# Altium footprint library Acorn.PcbLib: 7 footprints
Each footprint in its own frame and in the unit in brackets; x right, y up, seen from the top. Pads: shape width x height; smd on the part's side, far side on the other; paste and mask are expansions set on the pad; w line width, h text height; cw(c..) or ccw(c..) is an arc to the next point about the centre after c.
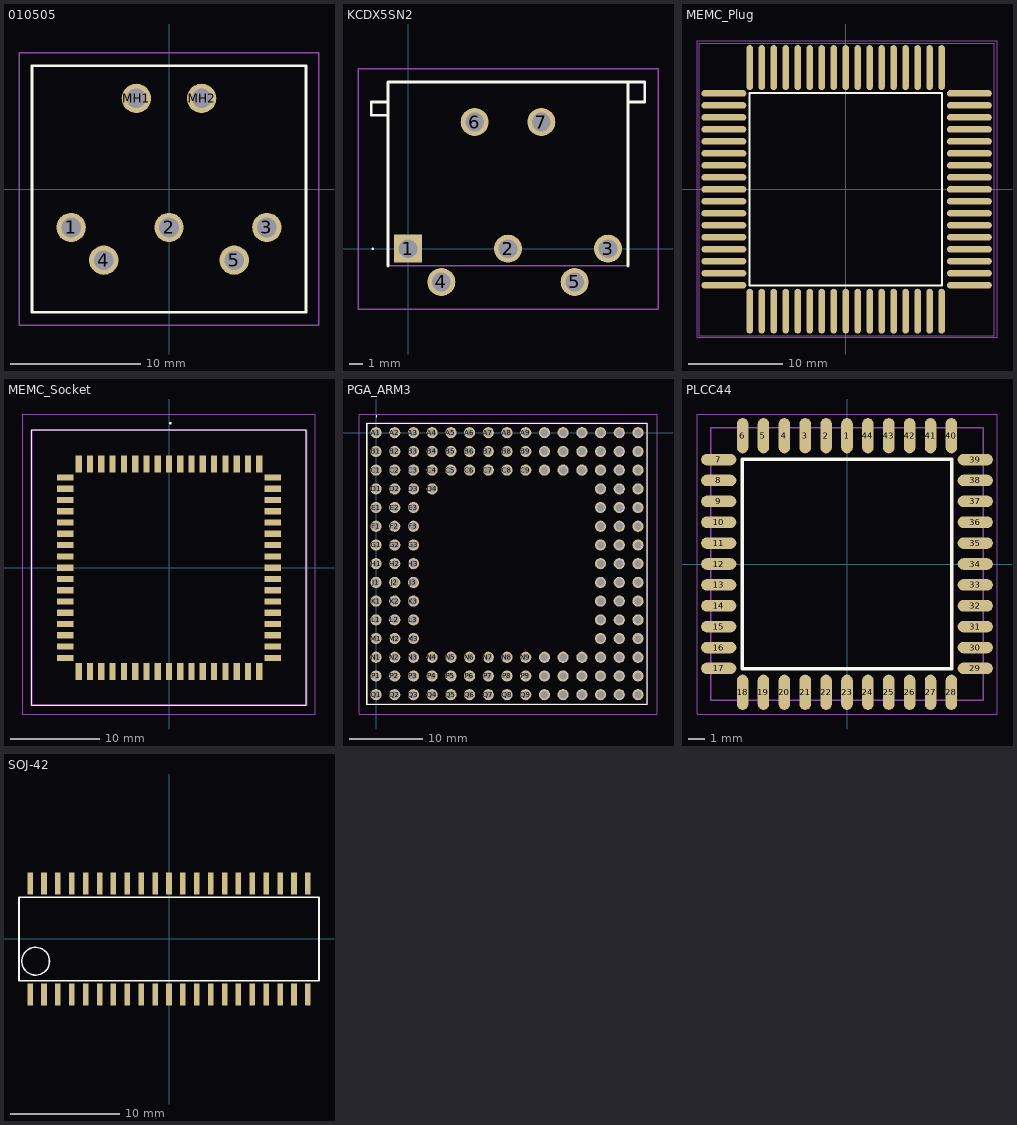
[diagram p0: the footprints below, top view; thin cyan lines are the x and y axes]

## 010505 [mm]
pads (7):
  round 2.25 hole 1.5: 1(-7.5,-2.95) 2(0,-2.95) 3(7.5,-2.95) 4(-5,-5.45) 5(5,-5.45) MH1(-2.5,6.95) MH2(2.5,6.95)
Top Overlay:
  lines w0.2: -10.5,-9.45 -10.5,9.45 10.5,9.45 10.5,-9.45 -10.5,-9.45
Mechanical 13:
  lines w0.1: -10.5,-9.45 -10.5,9.45 10.5,9.45 10.5,-9.45 -10.5,-9.45
Mechanical 15:
  lines w0.1: -11.5,-10.45 -11.5,10.45 11.5,10.45 11.5,-10.45 -11.5,-10.45
3D body "0105+05.stp": height 19.6, standoff -5, extent -10.5,-9.45 10.5,9.45

## KCDX5SN2 [mm]
pads (7):
  rect 2.1x2.1 hole 1.4: 1(0,0)
  round 2.1 hole 1.4: 2(7.5,0) 3(15,0) 4(2.5,-2.5) 5(12.5,-2.5) 6(5,9.5) 7(10,9.5)
Top Overlay:
  lines w0.1: -2.7,0 ccw(c-2.65,0) -2.6,0 ccw(c-2.65,0) -2.7,0
  lines w0.2: -1.5,-1.3 -1.5,12.5 16.5,12.5 ; -1.5,10 -2.75,10 -2.75,11 -1.5,11 ; 16.5,-1.3 16.5,12.5 ; 16.5,11 17.75,11 17.75,12.5 16.5,12.5
Mechanical 13:
  lines w0.1: -1.5,10 -2.75,10 -2.75,11 -1.5,11 ; 16.5,11 17.75,11 17.75,12.5 16.5,12.5 ; 16.5,12.5 16.5,-1.3 -1.5,-1.3 -1.5,12.5 16.5,12.5
Mechanical 15:
  lines w0.1: -3.75,-4.55 18.75,-4.55 18.75,13.5 -3.75,13.5 -3.75,-4.55
3D body "KCDX-5S-N2_rA3.STEP": height 19.5, standoff -4, extent -2.724,-3.064 17.776,12.436

## MEMC_Plug [mm]
height 4.85
pads (68):
  rrect100% 0.7x4.75 smd: 1(0,-12.9) 2(-1.27,-12.9) 3(-2.54,-12.9) 4(-3.81,-12.9) 5(-5.08,-12.9) 6(-6.35,-12.9) 7(-7.62,-12.9) 8(-8.89,-12.9) 9(-10.16,-12.9) 27(-10.16,12.9) 28(-8.89,12.9) 29(-7.62,12.9) 30(-6.35,12.9) 31(-5.08,12.9) 32(-3.81,12.9) 33(-2.54,12.9) 34(-1.27,12.9) 35(0,12.9) 36(1.27,12.9) 37(2.54,12.9) 38(3.81,12.9) 39(5.08,12.9) 40(6.35,12.9) 41(7.62,12.9) 42(8.89,12.9) 43(10.16,12.9) 61(10.16,-12.9) 62(8.89,-12.9) 63(7.62,-12.9) 64(6.35,-12.9) 65(5.08,-12.9) 66(3.81,-12.9) 67(2.54,-12.9) 68(1.27,-12.9)
  rrect100% 4.75x0.7 smd: 10(-12.9,-10.16) 11(-12.9,-8.89) 12(-12.9,-7.62) 13(-12.9,-6.35) 14(-12.9,-5.08) 15(-12.9,-3.81) 16(-12.9,-2.54) 17(-12.9,-1.27) 18(-12.9,0) 19(-12.9,1.27) 20(-12.9,2.54) 21(-12.9,3.81) 22(-12.9,5.08) 23(-12.9,6.35) 24(-12.9,7.62) 25(-12.9,8.89) 26(-12.9,10.16) 44(13.1,10.16) 45(13.1,8.89) 46(13.1,7.62) 47(13.1,6.35) 48(13.1,5.08) 49(13.1,3.81) 50(13.1,2.54) 51(13.1,1.27) 52(13.1,0) 53(13.1,-1.27) 54(13.1,-2.54) 55(13.1,-3.81) 56(13.1,-5.08) 57(13.1,-6.35) 58(13.1,-7.62) 59(13.1,-8.89) 60(13.1,-10.16)
Top Overlay:
  lines w0.2: -10.192,-10.192 -10.192,10.192 10.192,10.192 10.192,-10.192 -10.192,-10.192
Mechanical 14:
  lines w0.1: -15.519,-15.494 -15.519,15.469 15.748,15.469 15.748,-15.494 -15.519,-15.494
Mechanical 16:
  lines w0.05: -15.748,-15.646 -15.748,15.723 16.027,15.723 16.027,-15.646 -15.748,-15.646
3D body "TL16C554FN.stp": height 7.5, standoff 3.16, extent -12.573,-12.573 12.573,12.573

## MEMC_Socket [mm]
height 4.85
pads (68):
  rect 0.7x1.91 smd: 1(0,11.68) 2(-1.27,11.68) 3(-2.54,11.68) 4(-3.81,11.68) 5(-5.08,11.68) 6(-6.35,11.68) 7(-7.62,11.68) 8(-8.89,11.68) 9(-10.16,11.68) 27(-10.16,-11.68) 28(-8.89,-11.68) 29(-7.62,-11.68) 30(-6.35,-11.68) 31(-5.08,-11.68) 32(-3.81,-11.68) 33(-2.54,-11.68) 34(-1.27,-11.68) 35(0,-11.68) 36(1.27,-11.68) 37(2.54,-11.68) 38(3.81,-11.68) 39(5.08,-11.68) 40(6.35,-11.68) 41(7.62,-11.68) 42(8.89,-11.68) 43(10.16,-11.68) 61(10.16,11.68) 62(8.89,11.68) 63(7.62,11.68) 64(6.35,11.68) 65(5.08,11.68) 66(3.81,11.68) 67(2.54,11.68) 68(1.27,11.68)
  rect 1.91x0.7 smd: 10(-11.68,10.16) 11(-11.68,8.89) 12(-11.68,7.62) 13(-11.68,6.35) 14(-11.68,5.08) 15(-11.68,3.81) 16(-11.68,2.54) 17(-11.68,1.27) 18(-11.68,0) 19(-11.68,-1.27) 20(-11.68,-2.54) 21(-11.68,-3.81) 22(-11.68,-5.08) 23(-11.68,-6.35) 24(-11.68,-7.62) 25(-11.68,-8.89) 26(-11.68,-10.16) 44(11.68,-10.16) 45(11.68,-8.89) 46(11.68,-7.62) 47(11.68,-6.35) 48(11.68,-5.08) 49(11.68,-3.81) 50(11.68,-2.54) 51(11.68,-1.27) 52(11.68,0) 53(11.68,1.27) 54(11.68,2.54) 55(11.68,3.81) 56(11.68,5.08) 57(11.68,6.35) 58(11.68,7.62) 59(11.68,8.89) 60(11.68,10.16)
Top Overlay:
  lines w0.1: -15.475,-15.475 15.475,-15.475 15.475,15.5 -15.475,15.5 -15.475,-15.475
  lines w0.2: 0.1,16.25 ccw(c0.15,16.25) 0.2,16.25 ; 0.1,16.25 cw(c0.15,16.25) 0.2,16.25 ; 0.1,16.25 ccw(c0.15,16.25) 0.2,16.25
Mechanical 13:
  lines w0.2: -15.475,-15.475 15.475,-15.475 15.475,15.475 -15.475,15.475 -15.475,-15.475
Mechanical 15:
  lines w0.1: -16.475,-16.475 16.475,-16.475 16.475,17.3 -16.475,17.3 -16.475,-16.475
3D body "plcc68_p1-27_l24-33_w24-33.stp": height 5.08, standoff 0.13, extent -12.57,-12.762 12.7,12.508
3D body "8468-21b1-01.stp": height 4.46, standoff -0.19, extent -15.367,-15.24 15.367,15.47

## PGA_ARM3 [mm]
pads (145):
  round 1.515 hole 1.01: A1(0,0) A2(2.54,0) A3(5.08,0) A4(7.62,0) A5(10.16,0) A6(12.7,0) A7(15.24,0) A8(17.78,0) A9(20.32,0) A10(22.86,0) A11(25.4,0) A12(27.94,0) A13(30.48,0) A14(33.02,0) A15(35.56,0) B1(0,-2.54) B2(2.54,-2.54) B3(5.08,-2.54) B4(7.62,-2.54) B5(10.16,-2.54) B6(12.7,-2.54) B7(15.24,-2.54) B8(17.78,-2.54) B9(20.32,-2.54) B10(22.86,-2.54) B11(25.4,-2.54) B12(27.94,-2.54) B13(30.48,-2.54) B14(33.02,-2.54) B15(35.56,-2.54) C1(0,-5.08) C2(2.54,-5.08) C3(5.08,-5.08) C4(7.62,-5.08) C5(10.16,-5.08) C6(12.7,-5.08) C7(15.24,-5.08) C8(17.78,-5.08) C9(20.32,-5.08) C10(22.86,-5.08) C11(25.4,-5.08) C12(27.94,-5.08) C13(30.48,-5.08) C14(33.02,-5.08) C15(35.56,-5.08) D1(0,-7.62) D2(2.54,-7.62) D3(5.08,-7.62) D4(7.62,-7.62) D13(30.48,-7.62) D14(33.02,-7.62) D15(35.56,-7.62) E1(0,-10.16) E2(2.54,-10.16) E3(5.08,-10.16) E13(30.48,-10.16) E14(33.02,-10.16) E15(35.56,-10.16) F1(0,-12.7) F2(2.54,-12.7) F3(5.08,-12.7) F13(30.48,-12.7) F14(33.02,-12.7) F15(35.56,-12.7) G1(0,-15.24) G2(2.54,-15.24) G3(5.08,-15.24) G13(30.48,-15.24) G14(33.02,-15.24) G15(35.56,-15.24) H1(0,-17.78) H2(2.54,-17.78) H3(5.08,-17.78) H13(30.48,-17.78) H14(33.02,-17.78) H15(35.56,-17.78) J1(0,-20.32) J2(2.54,-20.32) J3(5.08,-20.32) J13(30.48,-20.32) J14(33.02,-20.32) J15(35.56,-20.32) K1(0,-22.86) K2(2.54,-22.86) K3(5.08,-22.86) K13(30.48,-22.86) K14(33.02,-22.86) K15(35.56,-22.86) L1(0,-25.4) L2(2.54,-25.4) L3(5.08,-25.4) L13(30.48,-25.4) L14(33.02,-25.4) L15(35.56,-25.4) M1(0,-27.94) M2(2.54,-27.94) M3(5.08,-27.94) M13(30.48,-27.94) M14(33.02,-27.94) M15(35.56,-27.94) N1(0,-30.48) N2(2.54,-30.48) N3(5.08,-30.48) N4(7.62,-30.48) N5(10.16,-30.48) N6(12.7,-30.48) N7(15.24,-30.48) N8(17.78,-30.48) N9(20.32,-30.48) N10(22.86,-30.48) N11(25.4,-30.48) N12(27.94,-30.48) N13(30.48,-30.48) N14(33.02,-30.48) N15(35.56,-30.48) P1(0,-33.02) P2(2.54,-33.02) P3(5.08,-33.02) P4(7.62,-33.02) P5(10.16,-33.02) P6(12.7,-33.02) P7(15.24,-33.02) P8(17.78,-33.02) P9(20.32,-33.02) P10(22.86,-33.02) P11(25.4,-33.02) P12(27.94,-33.02) P13(30.48,-33.02) P14(33.02,-33.02) P15(35.56,-33.02) Q1(0,-35.56) Q2(2.54,-35.56) Q3(5.08,-35.56) Q4(7.62,-35.56) Q5(10.16,-35.56) Q6(12.7,-35.56) Q7(15.24,-35.56) Q8(17.78,-35.56) Q9(20.32,-35.56) Q10(22.86,-35.56) Q11(25.4,-35.56) Q12(27.94,-35.56) Q13(30.48,-35.56) Q14(33.02,-35.56) Q15(35.56,-35.56)
Top Overlay:
  lines w0.1: -1.27,-36.83 36.83,-36.83 36.83,1.27 -1.27,1.27 ; -1.27,-36.83 -1.27,1.27 ; -1.27,-36.83 -1.27,1.27 ; 0.03,2.24 cw(c0.08,2.24) 0.13,2.24 cw(c0.08,2.24) 0.03,2.24
Mechanical 13:
  lines w0.2: -1.27,-36.83 36.83,-36.83 36.83,1.27 -1.27,1.27 -1.27,-36.83
Mechanical 15:
  lines w0.1: -2.27,-38.18 38.1,-38.18 38.1,2.54 -2.27,2.54 -2.27,-38.18
3D body "pga_socket_510-87-145-15-081101.stp": height 4.31, standoff -3.07, extent -1.27,-36.83 36.83,1.27

## PLCC44 [mm]
height 4.85
pads (44):
  rrect100% 0.7x2.144 smd: 1(0,7.803) 2(-1.27,7.803) 3(-2.54,7.803) 4(-3.81,7.803) 5(-5.08,7.803) 6(-6.35,7.803) 18(-6.35,-7.803) 19(-5.08,-7.803) 20(-3.81,-7.803) 21(-2.54,-7.803) 22(-1.27,-7.803) 23(0,-7.803) 24(1.27,-7.803) 25(2.54,-7.803) 26(3.81,-7.803) 27(5.08,-7.803) 28(6.35,-7.803) 40(6.35,7.803) 41(5.08,7.803) 42(3.81,7.803) 43(2.54,7.803) 44(1.27,7.803)
  rrect100% 2.144x0.7 smd: 7(-7.803,6.35) 8(-7.803,5.08) 9(-7.803,3.81) 10(-7.803,2.54) 11(-7.803,1.27) 12(-7.803,0) 13(-7.803,-1.27) 14(-7.803,-2.54) 15(-7.803,-3.81) 16(-7.803,-5.08) 17(-7.803,-6.35) 29(7.803,-6.35) 30(7.803,-5.08) 31(7.803,-3.81) 32(7.803,-2.54) 33(7.803,-1.27) 34(7.803,0) 35(7.803,1.27) 36(7.803,2.54) 37(7.803,3.81) 38(7.803,5.08) 39(7.803,6.35)
Top Overlay:
  lines w0.2: -6.381,-6.381 6.381,-6.381 6.381,6.381 -6.381,6.381 -6.381,-6.381
Mechanical 13:
  lines w0.1: -8.293,-8.293 8.293,-8.293 8.293,8.293 -8.293,8.293 -8.293,-8.293
Mechanical 15:
  lines w0.05: -9.125,-9.125 9.125,-9.125 9.125,9.125 -9.125,9.125 -9.125,-9.125
3D body "User Library-PLCC44-1.step": height 4.3, standoff -0.04, extent -8.8,-8.8 8.8,8.8

## SOJ-42 [mil]
pads (42):
  rect 20x80 smd mask+7.87: 1(-500,-200) 2(-450,-200) 3(-400,-200) 4(-350,-200) 5(-300,-200) 6(-250,-200) 7(-200,-200) 8(-150,-200) 9(-100,-200) 10(-50,-200) 11(0,-200) 12(50,-200) 13(100,-200) 14(150,-200) 15(200,-200) 16(250,-200) 17(300,-200) 18(350,-200) 19(400,-200) 20(450,-200) 21(500,-200) 22(500,200) 23(450,200) 24(400,200) 25(350,200) 26(300,200) 27(250,200) 28(200,200) 29(150,200) 30(100,200) 31(50,200) 32(0,200) 33(-50,200) 34(-100,200) 35(-150,200) 36(-200,200) 37(-250,200) 38(-300,200) 39(-350,200) 40(-400,200) 41(-450,200) 42(-500,200)
Top Overlay:
  circle w5.91: c-480,-80 r50
  lines w5.91: -540,-150 -540,150 540,150 540,-150 -540,-150
3D body "User Library-SOJ-42.step": height 149.3, standoff 0.09, extent -562.99,-220 562.99,224.88